# Altium schematic symbol library GNSS.SchLib: 2 symbols
Pins are listed as number, name and electrical type; pins without a type are passive.

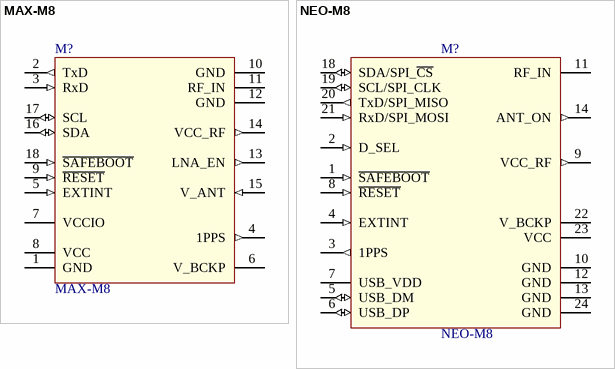
[diagram p0: symbols MAX-M8 to NEO-M8]

## MAX-M8
designator M?
MAX-M8 concurrent GNSS modules; value: NEO-M8
footprint MAX-M8 (UBlox GNSS module)
pins: 1 GND (power), 2 TxD (out) "Serial Port if D_SEL =1(or open)  SPI MISO if D_SEL = 0", 3 RxD (in) "Serial Port if D_SEL =1(or open)  SPI MOSI if D_SEL = 0", 4 1PPS (out), 5 EXTINT (in), 6 V_BCKP (power) "Backup voltage supply", 7 VCCIO (power), 8 VCC (power), 9 ~{RESET} (in), 10 GND (power), 11 RF_IN, 12 GND (power), 13 LNA_EN (out) "Antenna control", 14 VCC_RF (out), 15 V_ANT (in), 16 SDA (io) "DDC Data if D_SEL =1 (or open)  SPI Chip Select if D_SEL = 0", 17 SCL (io) "DDC Clock if D_SEL =1(or open)  SPI Clock if D_SEL = 0", 18 ~{SAFEBOOT} (in) "Reserved for future service, updates and reconfiguration, leave OPEN"

## NEO-M8
designator M?
NEO-M8 concurrent GNSS modules; value: NEO-M8
footprint NEO-M8 (UBlox GNSS module)
pins: 1 ~{SAFEBOOT} (in) "Reserved for future service, updates and reconfiguration, leave OPEN", 2 D_SEL (in), 3 1PPS (out), 4 EXTINT (in), 5 USB_DM (io), 6 USB_DP (io), 7 USB_VDD (power), 8 ~{RESET} (in), 9 VCC_RF (out), 10 GND (power), 11 RF_IN, 12 GND (power), 13 GND (power), 14 ANT_ON (out) "Antenna control", 18 SDA/SPI_~{CS} (io) "DDC Data if D_SEL =1 (or open)  SPI Chip Select if D_SEL = 0", 19 SCL/SPI_CLK (io) "DDC Clock if D_SEL =1(or open)  SPI Clock if D_SEL = 0", 20 TxD/SPI_MISO (out) "Serial Port if D_SEL =1(or open)  SPI MISO if D_SEL = 0", 21 RxD/SPI_MOSI (in) "Serial Port if D_SEL =1(or open)  SPI MOSI if D_SEL = 0", 22 V_BCKP (power) "Backup voltage supply", 23 VCC (power), 24 GND (power)